# Altium schematic symbol library DIODOS.SchLib: 41 symbols (part 1 of 3)
Pins are listed as number, name and electrical type; pins without a type are passive.

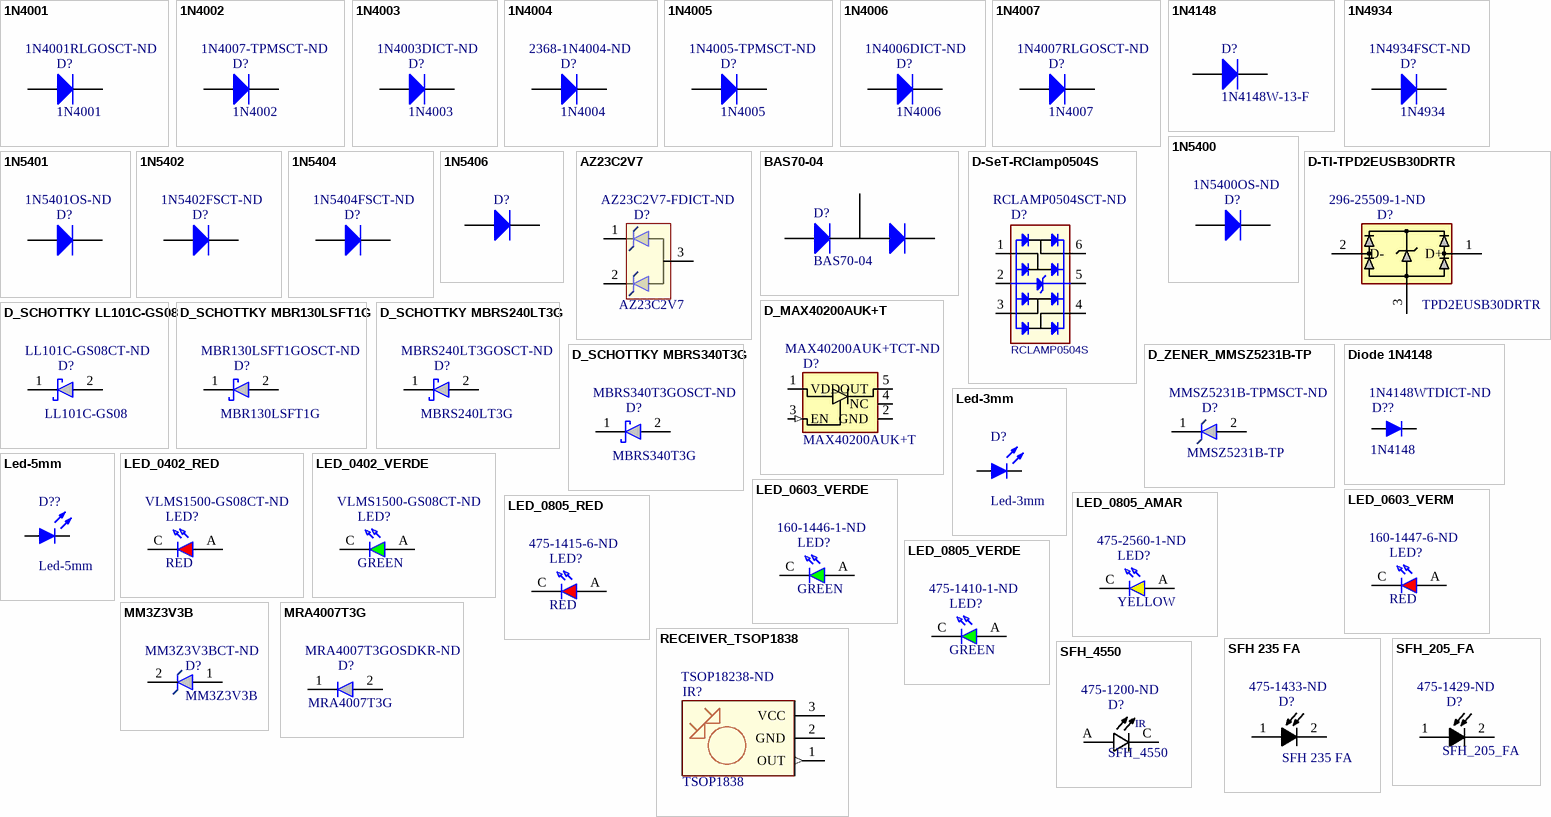
[diagram p0: symbols 1N4001 to SFH_4550]

## 1N4001
designator D?  Supplier Part Number 1: 1N4001RLGOSCT-ND
Diode Switching 50V 1A 2-Pin DO-41 T/R; Manufacturer: ON Semiconductor; Manufacturer Part Number: 1N4001RLG; Fabricante: Fairchild; Max Surge Current: 30A; Forward Voltage: 1.1V; Peak Reverse Current: 10uA; Element Configuration: Single; Polarity: Standard; MPN: 1N4001; Footprint: DO-41; Value: 1N4001; Code_JEDEC: DO-204-AL; ComponentLink1Description: LOJA; ComponentLink1URL: https://www.digikey.com/product-detail/en/on-semiconductor/1N4001RLG/1N4001RLGOSCT-ND/917621; ComponentLink2Description: DATASHEET; ComponentLink2URL: https://www.onsemi.com/pub/Collateral/1N4001-D.PDF; Supplier 1: Digi-Key; RoHS: Yes; Category: Rectifier Diodes; Stock 1: 12104; Pricing 1: 1=0,21000, 10=0,19400, 25=0,18520, 100=0,08140, 250=0,07816, 500=0,06394, 1000=0,04440, 2500=0,03878 (USD); Case/Package: Axial; Number of Pins: 2; Contact Plating: Tin,Matte; Min Operating Temperature: -65°C; Max Operating Temperature: 175°C; Forward Current: 1A; Package Quantity: 1; Packaging: Tape and Reel; Average Rectified Current: 1A; Max Repetitive Reverse Voltage (Vrrm): 50V; Peak Non-Repetitive Surge Current: 30A; Max Forward Surge Current (Ifsm): 30A; Voltage Rating (DC): 50V; Current Rating: 1A; Output Current: 1A; Max Reverse Voltage (DC): 50V; Reverse Voltage: 50V; Diameter: 2.7mm; Length: 5.2mm; Height: 5.2mm; Radiation Hardening: No; REACH SVHC: No SVHC; Lead Free: Lead Free; Halogen Free: Halogen Free; ComponentLink3URL: https://datasheet.ciiva.com/30479/0900766b81221291-30479413.pdf?src-supplier=RSComponents; ComponentLink3Description: https://datasheet.ciiva.com/30479/0900766b81221291-30479413.pdf?src-supplier=RSComponents; ComponentLink4URL: https://datasheet.ciiva.com/27050/804480-27050138.pdf?src-supplier=Jameco; ComponentLink4Description: https://datasheet.ciiva.com/27050/804480-27050138.pdf?src-supplier=Jameco; ComponentLink5URL: https://datasheet.ciiva.com/3304/1n4001-d-3304182.pdf?src-supplier=Avnet; ComponentLink5Description: https://datasheet.ciiva.com/3304/1n4001-d-3304182.pdf?src-supplier=Avnet; ComponentLink6URL: https://datasheet.ciiva.com/8299/1n4001-d-8299703.pdf?src-supplier=Avnet; ComponentLink6Description: https://datasheet.ciiva.com/8299/1n4001-d-8299703.pdf?src-supplier=Avnet; ComponentLink7URL: https://datasheet.ciiva.com/915/1n4001-d-915353.pdf?src-supplier=Digi-Key; ComponentLink7Description: https://datasheet.ciiva.com/915/1n4001-d-915353.pdf?src-supplier=Digi-Key; ComponentLink8URL: https://datasheet.ciiva.com/915/1n4001-d-915354.pdf?src-supplier=Digi-Key; ComponentLink8Description: https://datasheet.ciiva.com/915/1n4001-d-915354.pdf?src-supplier=Digi-Key; ComponentLink9URL: https://datasheet.ciiva.com/7962/1n4001-d-7962911.pdf?src-supplier=Element14; ComponentLink9Description: https://datasheet.ciiva.com/7962/1n4001-d-7962911.pdf?src-supplier=Element14; ComponentLink10URL: https://datasheet.ciiva.com/25930/1n4001-d-25930431.pdf?src-supplier=Avnet+Europe; ComponentLink10Description: https://datasheet.ciiva.com/25930/1n4001-d-25930431.pdf?src-supplier=Avnet+Europe
footprint DO-41 (Diode, Axial; Body 5.2 x 2.7 mm (LxDia. max), Lead Dia. 0.86 mm (max))
simulation model 1N4001 (DIODE)
signal-integrity model 1N4001
pins: 1 A, 2 K

## 1N4002
designator D?  Supplier Part Number 1: 1N4007-TPMSCT-ND
DIODE GEN PURP 1KV 1A DO41; Manufacturer: MCC; Manufacturer Part Number: 1N4007-TP; Fabricante: On Semi; Polarity: Standard; Capacitance: 15pF; Reverse Recovery Time: 2us; Peak Reverse Current: 5uA; Max Surge Current: 30A; Forward Voltage: 1V; Element Configuration: Single; Recovery Time: 2000ns; MPN: 1N4002; Value: 1N4002; Footprint: DO-41; Code_JEDEC: DO-204-AL; ComponentLink1Description: datasheet; ComponentLink1URL: https://www.onsemi.com/pub/Collateral/1N4001-D.PDF; ComponentLink2Description: loja; ComponentLink2URL: https://www.digikey.com/products/en/discrete-semiconductor-products/diodes-rectifiers-single/280?k=1n400; Supplier 1: Digi-Key; RoHS: Yes; Category: Rectifier Diodes; Stock 1: 460010; Pricing 1: 1=0,12000, 10=0,11200, 25=0,10640, 100=0,04680, 250=0,04488, 500=0,03672, 1000=0,02550, 2500=0,02227 (USD); Mount: Through Hole; Number of Pins: 2; Min Operating Temperature: -55°C; Max Operating Temperature: 150°C; Voltage Rating (DC): 1kV; Current Rating: 1A; Output Current: 1A; Max Reverse Voltage (DC): 1kV; Package Quantity: 1; Packaging: Tape and Reel; Average Rectified Current: 1A; Reverse Voltage: 1kV; Max Repetitive Reverse Voltage (Vrrm): 1kV; Forward Current: 1A; Peak Non-Repetitive Surge Current: 30A; Max Forward Surge Current (Ifsm): 30A; Diameter: 2.7mm; Length: 5.2mm; Radiation Hardening: No; Lead Free: Lead Free; ComponentLink3URL: https://datasheet.ciiva.com/15200/getdatasheetpartid-244538-15200364.pdf?src-supplier=Verical; ComponentLink3Description: https://datasheet.ciiva.com/15200/getdatasheetpartid-244538-15200364.pdf?src-supplier=Verical; ComponentLink4URL: https://datasheet.ciiva.com/18403/70055517-18403644.pdf?src-supplier=Allied+Electronics; ComponentLink4Description: https://datasheet.ciiva.com/18403/70055517-18403644.pdf?src-supplier=Allied+Electronics; ComponentLink5URL: https://datasheet.ciiva.com/911/1n4001-1n4007do-41-911645.pdf?src-supplier=Digi-Key; ComponentLink5Description: https://datasheet.ciiva.com/911/1n4001-1n4007do-41-911645.pdf?src-supplier=Digi-Key; ComponentLink6URL: https://datasheet.ciiva.com/16769/1n4001-1n4007do-41-16769869.pdf?src-supplier=Future+Electronics; ComponentLink6Description: https://datasheet.ciiva.com/16769/1n4001-1n4007do-41-16769869.pdf?src-supplier=Future+Electronics; ComponentLink7URL: https://datasheet.ciiva.com/911/1n4001-1n4007do-41-911646.pdf?src-supplier=Digi-Key; ComponentLink7Description: https://datasheet.ciiva.com/911/1n4001-1n4007do-41-911646.pdf?src-supplier=Digi-Key
footprint DO-41 (Diode, Axial; Body 5.2 x 2.7 mm (LxDia. max), Lead Dia. 0.86 mm (max))
simulation model 1N4002 (DIODE)
signal-integrity model 1N4002
pins: 1 A, 2 K

## 1N4003
designator D?  Supplier Part Number 1: 1N4003DICT-ND
Diode Standard  1A Through Hole DO-41; Manufacturer: Diodes; Manufacturer Part Number: 1N4003-T; Fabricante: ON Semi; Peak Reverse Current: 5uA; Max Repetitive Reverse Voltage (Vrrm): 200V; Peak Non-Repetitive Surge Current: 30A; Capacitance: 15pF; Recovery Time: 2us; Forward Voltage: 1V; Value: 1N4003; Footprint: DO-41; MPN: 1N4003; Code_JEDEC: DO-204-AL; ComponentLink1Description: DATASHEET; ComponentLink1URL: https://www.onsemi.com/pub/Collateral/1N4001-D.PDF; Supplier 1: Digi-Key; RoHS: Yes; Category: Rectifier Diodes; Stock 1: 150993; Pricing 1: 1=0,19000, 10=0,17200, 25=0,16400, 100=0,07220, 250=0,06932, 500=0,05672, 1000=0,03939, 2500=0,03440 (USD); Number of Pins: 2; Weight: 0.010582oz; Min Operating Temperature: -65°C; Max Operating Temperature: 150°C; Packaging: Tape and Reel; Max Surge Current: 30A; Package Quantity: 5000; Average Rectified Current: 1A; Max Reverse Voltage (DC): 200V; Polarity: Standard; Voltage Rating (DC): 200V; Current Rating: 1A; Output Current: 1A; Forward Current: 1A; Max Forward Surge Current (Ifsm): 30A; Reverse Voltage (DC): 200V; Diameter: 2.72mm; Length: 5.21mm; Height: 2.72mm; Width: 2.72mm; Radiation Hardening: No; Lead Free: Lead Free; ComponentLink2URL: https://datasheet.ciiva.com/4453/ds28002-83776-4453713.pdf?src-supplier=Mouser; ComponentLink2Description: https://datasheet.ciiva.com/4453/ds28002-83776-4453713.pdf?src-supplier=Mouser; ComponentLink3URL: https://datasheet.ciiva.com/16372/ds28002-16372872.pdf?src-supplier=Future+Electronics; ComponentLink3Description: https://datasheet.ciiva.com/16372/ds28002-16372872.pdf?src-supplier=Future+Electronics; ComponentLink4URL: https://datasheet.ciiva.com/15144/getdatasheetpartid-66680-15144396.pdf?src-supplier=Verical; ComponentLink4Description: https://datasheet.ciiva.com/15144/getdatasheetpartid-66680-15144396.pdf?src-supplier=Verical
footprint DO-41 (Diode, Axial; Body 5.2 x 2.7 mm (LxDia. max), Lead Dia. 0.86 mm (max))
simulation model 1N4003 (DIODE)
signal-integrity model 1N4003
pins: 1 A, 2 K

## 1N4004
designator D?  Supplier Part Number 1: 2368-1N4004-ND
RECTIFIER SILICON 400V 1A DO-41 CASE; Manufacturer: NTE Electronics; Fabricante: ON Semi; Element Configuration: Single; Peak Non-Repetitive Surge Current: 30A; Forward Voltage: 1.1V; Peak Reverse Current: 5uA; Polarity: Standard; Capacitance: 15pF; MPN: 1N4004; Footprint: DO-41; Value: 1N4004; Code_JEDEC: DO-204-AL; ComponentLink1Description: datasheet; ComponentLink1URL: https://www.onsemi.com/pub/Collateral/1N4001-D.PDF; Supplier 1: Digi-Key; Manufacturer Part Number: 1N4004; RoHS: Yes; Category: Rectifier Diodes; Pricing 1: 25=0,10000 (USD); Mount: Through Hole; Number of Pins: 2; Min Operating Temperature: -65°C; Max Operating Temperature: 125°C; Max Repetitive Reverse Voltage (Vrrm): 400V; Max Forward Surge Current (Ifsm): 30A; Forward Current: 1A; Packaging: Tape and Reel; Voltage Rating (DC): 400V; Current Rating: 1A; Output Current: 1A; Lead Free: Lead Free; REACH SVHC: Unknown; ComponentLink2URL: https://datasheet.ciiva.com/22659/1n4001-07-22659173.pdf?src-supplier=Element14; ComponentLink2Description: https://datasheet.ciiva.com/22659/1n4001-07-22659173.pdf?src-supplier=Element14; ComponentLink3URL: https://datasheet.ciiva.com/5837/1n4001-07-5837644.pdf?src-supplier=Farnell; ComponentLink3Description: https://datasheet.ciiva.com/5837/1n4001-07-5837644.pdf?src-supplier=Farnell
footprint DO-41 (Diode, Axial; Body 5.2 x 2.7 mm (LxDia. max), Lead Dia. 0.86 mm (max))
simulation model 1N4004 (DIODE)
signal-integrity model 1N4004
pins: 1 A, 2 K

## 1N4005
designator D?  Supplier Part Number 1: 1N4005-TPMSCT-ND
DIODE GEN PURP 600V 1A DO41; Manufacturer: MCC; Manufacturer Part Number: 1N4005-TP; Fabricante: On Semi; Max Surge Current: 30A; Forward Voltage: 1.1V; Recovery Time: 2000ns; Peak Reverse Current: 5uA; Element Configuration: Single; Reverse Recovery Time: 2us; Polarity: Standard; Capacitance: 15pF; Value: 1N4005; MPN: 1N4005; Footprint: DO-41; Code_JEDEC: DO-204-AL; ComponentLink1Description: datasheet; ComponentLink1URL: https://www.onsemi.com/pub/Collateral/1N4001-D.PDF; Supplier 1: Digi-Key; RoHS: Yes; Category: Rectifier Diodes; Stock 1: 27857; Pricing 1: 1=0,12000, 10=0,11200, 25=0,10640, 100=0,04680, 250=0,04488, 500=0,03672, 1000=0,02550, 2500=0,02227 (USD); Mount: Through Hole; Number of Pins: 2; Min Operating Temperature: -55°C; Max Operating Temperature: 150°C; Package Quantity: 1; Packaging: Tape and Reel; Max Reverse Voltage (DC): 600V; Forward Current: 1A; Reverse Voltage: 600V; Average Rectified Current: 1A; Max Repetitive Reverse Voltage (Vrrm): 600V; Peak Non-Repetitive Surge Current: 30A; Max Forward Surge Current (Ifsm): 30A; Voltage Rating (DC): 600V; Current Rating: 1A; Output Current: 1A; Diameter: 2.7mm; Length: 5.2mm; Radiation Hardening: No; REACH SVHC: Unknown; Lead Free: Lead Free; ComponentLink2URL: https://datasheet.ciiva.com/911/1n4001-1n4007do-41-911651.pdf?src-supplier=Digi-Key; ComponentLink2Description: https://datasheet.ciiva.com/911/1n4001-1n4007do-41-911651.pdf?src-supplier=Digi-Key; ComponentLink3URL: https://datasheet.ciiva.com/911/1n4001-1n4007do-41-911652.pdf?src-supplier=Digi-Key; ComponentLink3Description: https://datasheet.ciiva.com/911/1n4001-1n4007do-41-911652.pdf?src-supplier=Digi-Key; ComponentLink4URL: https://datasheet.ciiva.com/7624/1684824-7624696.pdf?src-supplier=Element14; ComponentLink4Description: https://datasheet.ciiva.com/7624/1684824-7624696.pdf?src-supplier=Element14; ComponentLink5URL: https://datasheet.ciiva.com/15200/getdatasheetpartid-57107-15200363.pdf?src-supplier=Verical; ComponentLink5Description: https://datasheet.ciiva.com/15200/getdatasheetpartid-57107-15200363.pdf?src-supplier=Verical
footprint DO-41 (Diode, Axial; Body 5.2 x 2.7 mm (LxDia. max), Lead Dia. 0.86 mm (max))
simulation model 1N4005 (DIODE)
signal-integrity model 1N4005
pins: 1 A, 2 K

## 1N4006
designator D?  Supplier Part Number 1: 1N4006DICT-ND
1N4006 Series 800 V 1 A Through Hole High Current Standard Rectifier - DO-41; Manufacturer: Diodes; Manufacturer Part Number: 1N4006-T; Fabricante: ON Semi; Peak Reverse Current: 5uA; Max Repetitive Reverse Voltage (Vrrm): 800V; Peak Non-Repetitive Surge Current: 30A; Average Rectified Current: 1A; Forward Voltage: 1V; Recovery Time: 2us; Capacitance: 8pF; Value: 1N4006; Footprint: DO-41; Code_JEDEC: DO-204-AL; ComponentLink1Description: datasheet; ComponentLink1URL: https://www.onsemi.com/pub/Collateral/1N4001-D.PDF; MPN: 1N4006; Supplier 1: Digi-Key; RoHS: Yes; Category: Rectifier Diodes; Stock 1: 37084; Pricing 1: 1=0,19000, 10=0,17200, 25=0,16400, 100=0,07220, 250=0,06932, 500=0,05672, 1000=0,03939, 2500=0,03440 (USD); Number of Pins: 2; Weight: 0.010582oz; Contact Plating: Tin,Bright; Min Operating Temperature: -65°C; Max Operating Temperature: 150°C; Packaging: Tape and Reel; Max Surge Current: 30A; Package Quantity: 5000; Max Reverse Voltage (DC): 800V; Forward Current: 1A; Max Forward Surge Current (Ifsm): 30A; Polarity: Standard; Voltage Rating (DC): 800V; Current Rating: 1A; Output Current: 1A; Reverse Voltage (DC): 800V; Length: 4.7mm; Height: 2.71mm; Width: 2.71mm; Radiation Hardening: No; Lead Free: Lead Free; ComponentLink2URL: https://datasheet.ciiva.com/911/ds28002-911625.pdf?src-supplier=Digi-Key; ComponentLink2Description: https://datasheet.ciiva.com/911/ds28002-911625.pdf?src-supplier=Digi-Key; ComponentLink3URL: https://datasheet.ciiva.com/911/ds28002-911624.pdf?src-supplier=Digi-Key; ComponentLink3Description: https://datasheet.ciiva.com/911/ds28002-911624.pdf?src-supplier=Digi-Key
footprint DO-41 (Diode, Axial; Body 5.2 x 2.7 mm (LxDia. max), Lead Dia. 0.86 mm (max))
simulation model 1N4006 (DIODE)
signal-integrity model 1N4006
pins: 1 A, 2 K

## 1N4007
designator D?  Supplier Part Number 1: 1N4007RLGOSCT-ND
ON SEMICONDUCTOR   1N4007RLG   STANDARD DIODE, 1A, 1KV, 59-10; Fabricante: On Semi; Max Surge Current: 30A; Peak Reverse Current: 10uA; Forward Voltage: 1.1V; Element Configuration: Single; MPN: 1N4007; Value: 1N4007; Footprint: DO-41; Code_JEDEC: DO-204-AL; ComponentLink1Description: datasheet; ComponentLink1URL: https://www.onsemi.com/pub/Collateral/1N4001-D.PDF; ComponentLink2Description: loja; ComponentLink2URL: https://www.digikey.com/product-detail/en/on-semiconductor/1N4007RLG/1N4007RLGOSCT-ND/917625; Supplier 1: Digi-Key; Manufacturer: ON Semiconductor; Manufacturer Part Number: 1N4007RLG; RoHS: Yes; Category: Rectifier Diodes; Stock 1: 158599; Pricing 1: 1=0,18000, 10=0,16700, 25=0,15880, 100=0,06990, 250=0,06704, 500=0,05486, 1000=0,03810, 2500=0,03328 (USD); Number of Pins: 2; Weight: 0.01lb; Contact Plating: Tin,Matte; Min Operating Temperature: -65°C; Max Operating Temperature: 175°C; Package Quantity: 1; Forward Current: 1A; Packaging: Tape and Reel; Average Rectified Current: 1A; Max Repetitive Reverse Voltage (Vrrm): 1kV; Max Forward Surge Current (Ifsm): 30A; Peak Non-Repetitive Surge Current: 30A; Polarity: Standard; Voltage Rating (DC): 1kV; Current Rating: 1A; Output Current: 1A; Max Reverse Voltage (DC): 1kV; Reverse Voltage: 1kV; Length: 5.2mm; Height: 2.7mm; Width: 2.7mm; Radiation Hardening: No; REACH SVHC: No SVHC; Lead Free: Lead Free; Halogen Free: Halogen Free; ComponentLink3URL: https://datasheet.ciiva.com/915/1n4001-d-915344.pdf?src-supplier=Digi-Key; ComponentLink3Description: https://datasheet.ciiva.com/915/1n4001-d-915344.pdf?src-supplier=Digi-Key; ComponentLink4URL: https://datasheet.ciiva.com/30479/0900766b811a6370-30479218.pdf?src-supplier=RSComponents; ComponentLink4Description: https://datasheet.ciiva.com/30479/0900766b811a6370-30479218.pdf?src-supplier=RSComponents; ComponentLink5URL: https://datasheet.ciiva.com/30479/0900766b811a6370-30479209.pdf?src-supplier=RSComponents; ComponentLink5Description: https://datasheet.ciiva.com/30479/0900766b811a6370-30479209.pdf?src-supplier=RSComponents; ComponentLink6URL: https://datasheet.ciiva.com/30479/0900766b811a6370-30479534.pdf?src-supplier=RSComponents; ComponentLink6Description: https://datasheet.ciiva.com/30479/0900766b811a6370-30479534.pdf?src-supplier=RSComponents; ComponentLink7URL: https://datasheet.ciiva.com/915/1n4001-d-915345.pdf?src-supplier=Digi-Key; ComponentLink7Description: https://datasheet.ciiva.com/915/1n4001-d-915345.pdf?src-supplier=Digi-Key; ComponentLink8URL: https://datasheet.ciiva.com/3304/1n4001-d-3304216.pdf?src-supplier=Avnet; ComponentLink8Description: https://datasheet.ciiva.com/3304/1n4001-d-3304216.pdf?src-supplier=Avnet; ComponentLink9URL: https://datasheet.ciiva.com/22659/1689669-22659000.pdf?src-supplier=Element14; ComponentLink9Description: https://datasheet.ciiva.com/22659/1689669-22659000.pdf?src-supplier=Element14; ComponentLink10URL: https://datasheet.ciiva.com/22659/1689669-22659001.pdf?src-supplier=Element14; ComponentLink10Description: https://datasheet.ciiva.com/22659/1689669-22659001.pdf?src-supplier=Element14; ComponentLink11URL: https://datasheet.ciiva.com/16472/1n4001-d-16472587.pdf?src-supplier=Avnet+Asia; ComponentLink11Description: https://datasheet.ciiva.com/16472/1n4001-d-16472587.pdf?src-supplier=Avnet+Asia; ComponentLink12URL: https://datasheet.ciiva.com/15144/getdatasheetpartid-66688-15144397.pdf?src-supplier=Verical; ComponentLink12Description: https://datasheet.ciiva.com/15144/getdatasheetpartid-66688-15144397.pdf?src-supplier=Verical; ComponentLink13URL: https://datasheet.ciiva.com/25950/1n4001-d-25950062.pdf?src-supplier=Avnet+Europe; ComponentLink13Description: https://datasheet.ciiva.com/25950/1n4001-d-25950062.pdf?src-supplier=Avnet+Europe
footprint DO-41 (Diode, Axial; Body 5.2 x 2.7 mm (LxDia. max), Lead Dia. 0.86 mm (max))
simulation model 1N4007 (DIODE)
signal-integrity model 1N4007
pins: 1 A, 2 K

## 1N4148
designator D?, comment 1N4148W-13-F
Diode Switching 100V 0.15A Automotive 2-Pin SOD-123 T/R; MPN: 1N4001; Manufacturer: Diodes; Fabricante: Fairchild; Value: 1N4001; Forward Current: 150mA; Reverse Recovery Time: 4ns; Peak Non-Repetitive Surge Current: 2A; Element Configuration: Single; Forward Voltage: 1.25V; Peak Reverse Current: 1uA; Power Dissipation: 400mW; Footprint: DO-41; Code_JEDEC: DO-204-AL; Supplier 1: Digi-Key; Supplier Part Number 1: 1N4148W-13FDICT-ND; Manufacturer Part Number: 1N4148W-13-F; Stock 1: 40973; Pricing 1: 1=0,17000, 10=0,15900, 25=0,15160, 100=0,06670, 250=0,06400, 500=0,05236, 1000=0,03636, 2500=0,03176, 5000=0,02848 (USD); RoHS: Yes; Mount: Surface Mount; Case/Package: SOD-123-2; Number of Pins: 2; Weight: 0.000353oz; Min Operating Temperature: -65°C; Max Operating Temperature: 150°C; Max Repetitive Reverse Voltage (Vrrm): 100V; Packaging: Tape and Reel; Max Surge Current: 2A; Recovery Time: 4ns; Package Quantity: 10000; Average Rectified Current: 150mA; Power Rating: 400mW; Max Reverse Voltage (DC): 100V; Length: 2.85mm; Height: 1.25mm; Width: 1.7mm; Radiation Hardening: No; Lead Free: Lead Free; ComponentLink1URL: https://datasheet.ciiva.com/3304/ds30086-3304224.pdf?src-supplier=Avnet; ComponentLink1Description: https://datasheet.ciiva.com/3304/ds30086-3304224.pdf?src-supplier=Avnet; ComponentLink2URL: https://datasheet.ciiva.com/27052/1537977-27052339.pdf?src-supplier=Jameco; ComponentLink2Description: https://datasheet.ciiva.com/27052/1537977-27052339.pdf?src-supplier=Jameco; ComponentLink3URL: https://datasheet.ciiva.com/6383/ds30086-6383133.pdf?src-supplier=Digi-Key; ComponentLink3Description: https://datasheet.ciiva.com/6383/ds30086-6383133.pdf?src-supplier=Digi-Key; ComponentLink4URL: https://datasheet.ciiva.com/16201/ds30086-16201085.pdf?src-supplier=Future+Electronics; ComponentLink4Description: https://datasheet.ciiva.com/16201/ds30086-16201085.pdf?src-supplier=Future+Electronics; ComponentLink5URL: https://datasheet.ciiva.com/6383/ds30086-6383134.pdf?src-supplier=Digi-Key; ComponentLink5Description: https://datasheet.ciiva.com/6383/ds30086-6383134.pdf?src-supplier=Digi-Key; ComponentLink6URL: https://datasheet.ciiva.com/6383/ds30086-6383135.pdf?src-supplier=Digi-Key; ComponentLink6Description: https://datasheet.ciiva.com/6383/ds30086-6383135.pdf?src-supplier=Digi-Key
simulation model 1N4001 (DIODE)
signal-integrity model 1N4001
footprint SOD123 (SOD123, Surface Mount)
pins: 1 A, 2 K

## 1N4934
designator D?  Supplier Part Number 1: 1N4934FSCT-ND
DIODE GEN PURP 100V 1A DO41; Manufacturer: ON Semiconductor / Fairchild; Fabricante: On Semi; Element Configuration: Single; Peak Reverse Current: 5uA; Reverse Recovery Time: 150ns; Peak Non-Repetitive Surge Current: 30A; Recovery Time: 300ns; Forward Voltage: 1.2V; Polarity: Standard; Capacitance: 12pF; Power Dissipation: 2.5W; MPN: 1N4934; Footprint: DO-41; Value: 1N4934; Code_JEDEC: DO-204-AL; ComponentLink1Description: loja; ComponentLink1URL: https://www.digikey.com/product-detail/en/on-semiconductor/1N4934/1N4934FSCT-ND/3504280; ComponentLink2Description: Datasheet; ComponentLink2URL: http://www.fairchildsemi.com/ds/1N%2F1N4934.pdf; Supplier 1: Digi-Key; Manufacturer Part Number: 1N4934; RoHS: Yes; Category: Rectifier Diodes; Pricing 1: 1=0,21000, 10=0,18700, 100=0,10210, 500=0,06284, 1000=0,04284 (USD); Mount: Through Hole; Number of Pins: 2; Weight: 0.245g; Contact Plating: Tin,Matte; Min Operating Temperature: -65°C; Max Operating Temperature: 150°C; Packaging: Tape and Reel; Max Repetitive Reverse Voltage (Vrrm): 100V; Max Surge Current: 30A; Package Quantity: 1000; Average Rectified Current: 1A; Max Reverse Voltage (DC): 100V; Forward Current: 1A; Voltage Rating (DC): 100V; Current Rating: 1A; Output Current: 1A; Reverse Voltage: 100V; Max Forward Surge Current (Ifsm): 30A; Diameter: 2.72mm; Length: 5.2mm; Height: 0.25inch; Width: 0.25inch; Radiation Hardening: No; Lead Free: Lead Free; REACH SVHC: No SVHC; ComponentLink3URL: https://datasheet.ciiva.com/910/1n4937-910450.pdf?src-supplier=Avnet; ComponentLink3Description: https://datasheet.ciiva.com/910/1n4937-910450.pdf?src-supplier=Avnet; ComponentLink4URL: https://datasheet.ciiva.com/4452/1n4934-193180-4452365.pdf?src-supplier=Mouser; ComponentLink4Description: https://datasheet.ciiva.com/4452/1n4934-193180-4452365.pdf?src-supplier=Mouser; ComponentLink5URL: https://datasheet.ciiva.com/1176/47887-1176855.pdf?src-supplier=Element14; ComponentLink5Description: https://datasheet.ciiva.com/1176/47887-1176855.pdf?src-supplier=Element14; ComponentLink6URL: https://datasheet.ciiva.com/6367/1n4937-6367753.pdf?src-supplier=Digi-Key; ComponentLink6Description: https://datasheet.ciiva.com/6367/1n4937-6367753.pdf?src-supplier=Digi-Key; ComponentLink7URL: https://datasheet.ciiva.com/927/1n4933-d-927547.pdf?src-supplier=Digi-Key; ComponentLink7Description: https://datasheet.ciiva.com/927/1n4933-d-927547.pdf?src-supplier=Digi-Key; ComponentLink8URL: https://datasheet.ciiva.com/15208/getdatasheetpartid-185087-15208379.pdf?src-supplier=Verical; ComponentLink8Description: https://datasheet.ciiva.com/15208/getdatasheetpartid-185087-15208379.pdf?src-supplier=Verical
footprint DO-41 (Diode, Axial; Body 5.2 x 2.7 mm (LxDia. max), Lead Dia. 0.86 mm (max))
simulation model 1N4934 (DIODE)
signal-integrity model 1N4934
pins: 1 A, 2 K

## 1N5400
designator D?  Supplier Part Number 1: 1N5400OS-ND
DIODE GEN PURP 50V 3A DO201AD; Manufacturer: ON Semiconductor / Fairchild; Manufacturer Part Number: 1N5400; Max Surge Current: 200A; Peak Reverse Current: 10uA; Element Configuration: Single; Polarity: Standard; Forward Voltage: 1.2V; Power Dissipation: 6.25W; Capacitance: 30pF; Published: 8-Jun-2000; LatestRevisionDate: 17-Jul-2002; LatestRevisionNote: Re-released for DXP Platform.; DatasheetDocument: 1998; PackageDocument: Aug-1999; PackageReference: DO-201AD; Publisher: Altium Limited; ComponentLink1Description: Manufacturer Link; ComponentLink1URL: http://www.fairchildsemi.com/; ComponentLink2Description: Datasheet; ComponentLink2URL: http://www.fairchildsemi.com/ds/1N%2F1N5400.pdf; Supplier 1: Digi-Key; RoHS: Yes; Category: Integrated Circuits (ICs); Mount: Through Hole; Number of Pins: 2; Weight: 0.01lb; Min Operating Temperature: -65°C; Max Operating Temperature: 150°C; Packaging: Tape and Reel; Package Quantity: 1; Average Rectified Current: 3A; Max Repetitive Reverse Voltage (Vrrm): 50V; Max Forward Surge Current (Ifsm): 200A; Voltage Rating (DC): 50V; Current Rating: 3A; Output Current: 3A; Max Reverse Voltage (DC): 50V; Forward Current: 3A; Reverse Voltage: 50V; Peak Non-Repetitive Surge Current: 200A; Length: 0.25inch; Height: 0.25inch; Width: 0.25inch; Lead Free: Lead Free; REACH SVHC: No SVHC; ComponentLink3URL: https://datasheet.ciiva.com/6375/1n5400-6375345.pdf?src-supplier=Digi-Key; ComponentLink3Description: https://datasheet.ciiva.com/6375/1n5400-6375345.pdf?src-supplier=Digi-Key; ComponentLink4URL: https://datasheet.ciiva.com/13088/1n5400-188329-13088863.pdf?src-supplier=Mouser; ComponentLink4Description: https://datasheet.ciiva.com/13088/1n5400-188329-13088863.pdf?src-supplier=Mouser; ComponentLink5URL: https://datasheet.ciiva.com/8018/89175-8018991.pdf?src-supplier=Element14; ComponentLink5Description: https://datasheet.ciiva.com/8018/89175-8018991.pdf?src-supplier=Element14
footprint DO-201AD (Diode, Axial; Body 9.5 x 5.6 mm (LxDia. max), Lead Dia. 1.32 mm (max))
simulation model 1N5400 (DIODE)
signal-integrity model 1N5400
pins: 1 A, 2 K

## 1N5401
designator D?  Supplier Part Number 1: 1N5401OS-ND
Fairchild 1N5401, Diode, 100V 3A, 2-Pin DO-201AD; Manufacturer: ON Semiconductor / Fairchild; Element Configuration: Single; Peak Reverse Current: 5uA; Forward Voltage: 1.2V; Peak Non-Repetitive Surge Current: 200A; Polarity: Standard; Capacitance: 30pF; Power Dissipation: 6.25W; Published: 8-Jun-2000; LatestRevisionDate: 17-Jul-2002; LatestRevisionNote: Re-released for DXP Platform.; DatasheetDocument: 1998; PackageDocument: Aug-1999; PackageReference: DO-201AD; Publisher: Altium Limited; ComponentLink1Description: Manufacturer Link; ComponentLink1URL: http://www.fairchildsemi.com/; ComponentLink2Description: Datasheet; ComponentLink2URL: http://www.fairchildsemi.com/ds/1N%2F1N5400.pdf; Supplier 1: Digi-Key; Manufacturer Part Number: 1N5401; RoHS: Yes; Category: Rectifier Diodes; Mount: Through Hole; Case/Package: Axial; Number of Pins: 2; Weight: 0.01lb; Contact Plating: Tin,Matte; Min Operating Temperature: -55°C; Max Operating Temperature: 150°C; Packaging: Tape and Reel; Max Repetitive Reverse Voltage (Vrrm): 100V; Forward Current: 3A; Package Quantity: 500; Voltage Rating (DC): 100V; Current Rating: 3A; Output Current: 3A; Max Forward Surge Current (Ifsm): 200A; Max Surge Current: 200A; Average Rectified Current: 3A; Max Reverse Voltage (DC): 100V; Reverse Voltage: 100V; Diameter: 5.6mm; Length: 9.5mm; Height: 0.25inch; Width: 0.25inch; Radiation Hardening: No; Lead Free: Lead Free; REACH SVHC: No SVHC; ComponentLink3URL: https://datasheet.ciiva.com/1199/1n5402-1199120.pdf?src-supplier=Avnet; ComponentLink3Description: https://datasheet.ciiva.com/1199/1n5402-1199120.pdf?src-supplier=Avnet; ComponentLink4URL: https://datasheet.ciiva.com/4453/1n5401-192450-4453444.pdf?src-supplier=Mouser; ComponentLink4Description: https://datasheet.ciiva.com/4453/1n5401-192450-4453444.pdf?src-supplier=Mouser; ComponentLink5URL: https://datasheet.ciiva.com/16781/1n5401-16781111.pdf?src-supplier=Future+Electronics; ComponentLink5Description: https://datasheet.ciiva.com/16781/1n5401-16781111.pdf?src-supplier=Future+Electronics; ComponentLink6URL: https://datasheet.ciiva.com/34302/1200602-34302073.pdf?src-supplier=Jameco; ComponentLink6Description: https://datasheet.ciiva.com/34302/1200602-34302073.pdf?src-supplier=Jameco; ComponentLink7URL: https://datasheet.ciiva.com/927/1n5400-5408seriesrev5-927552.pdf?src-supplier=Digi-Key; ComponentLink7Description: https://datasheet.ciiva.com/927/1n5400-5408seriesrev5-927552.pdf?src-supplier=Digi-Key; ComponentLink8URL: https://datasheet.ciiva.com/26231/1n5408-26231989.pdf?src-supplier=Avnet+Europe; ComponentLink8Description: https://datasheet.ciiva.com/26231/1n5408-26231989.pdf?src-supplier=Avnet+Europe; ComponentLink9URL: https://datasheet.ciiva.com/910/1n5401-910662.pdf?src-supplier=Digi-Key; ComponentLink9Description: https://datasheet.ciiva.com/910/1n5401-910662.pdf?src-supplier=Digi-Key; ComponentLink10URL: https://datasheet.ciiva.com/8303/1n5408-8303622.pdf?src-supplier=Avnet; ComponentLink10Description: https://datasheet.ciiva.com/8303/1n5408-8303622.pdf?src-supplier=Avnet; ComponentLink11URL: https://datasheet.ciiva.com/910/1n5401-910663.pdf?src-supplier=Digi-Key; ComponentLink11Description: https://datasheet.ciiva.com/910/1n5401-910663.pdf?src-supplier=Digi-Key; ComponentLink12URL: https://datasheet.ciiva.com/1176/308423-1176952.pdf?src-supplier=Element14; ComponentLink12Description: https://datasheet.ciiva.com/1176/308423-1176952.pdf?src-supplier=Element14
footprint DO-201AD (Diode, Axial; Body 9.5 x 5.6 mm (LxDia. max), Lead Dia. 1.32 mm (max))
simulation model 1N5401 (DIODE)
signal-integrity model 1N5401
pins: 1 A, 2 K

## 1N5402
designator D?  Supplier Part Number 1: 1N5402FSCT-ND
DIODE GEN PURP 200V 3A DO201AD; Manufacturer: ON Semiconductor / Fairchild; Manufacturer Part Number: 1N5402; Element Configuration: Single; Forward Voltage: 1.2V; Peak Non-Repetitive Surge Current: 200A; Peak Reverse Current: 5uA; Polarity: Standard; Capacitance: 30pF; Number of Elements: 1; Max Power Dissipation: 6.25W; Published: 8-Jun-2000; LatestRevisionDate: 17-Jul-2002; LatestRevisionNote: Re-released for DXP Platform.; DatasheetDocument: 1998; PackageDocument: Aug-1999; PackageReference: DO-201AD; Publisher: Altium Limited; ComponentLink1Description: Manufacturer Link; ComponentLink1URL: http://www.fairchildsemi.com/; ComponentLink2Description: Datasheet; ComponentLink2URL: http://www.fairchildsemi.com/ds/1N%2F1N5400.pdf; Supplier 1: Digi-Key; RoHS: Yes; Category: Integrated Circuits (ICs); Pricing 1: 1=0,43000, 10=0,32400, 100=0,20180, 500=0,13806 (USD); Mount: Through Hole; Number of Pins: 2; Weight: 0.36g; Contact Plating: Tin,Matte; Number of Terminals: 2; Min Operating Temperature: -55°C; Max Operating Temperature: 150°C; Packaging: Tape and Reel; Max Repetitive Reverse Voltage (Vrrm): 200V; Forward Current: 3A; Package Quantity: 1250; Average Rectified Current: 3A; Max Reverse Voltage (DC): 200V; Max Surge Current: 200A; Output Current: 3A; Voltage Rating (DC): 200V; Current Rating: 3A; Max Forward Surge Current (Ifsm): 200A; Reverse Voltage: 200V; Power Dissipation: 6.25W; Diameter: 5.6mm; Length: 9.5mm; Height: 0.25inch; Width: 0.25inch; Radiation Hardening: No; Lead Free: Lead Free; REACH SVHC: No SVHC; ComponentLink3URL: https://datasheet.ciiva.com/15144/getdatasheetpartid-60687-15144311.pdf?src-supplier=Verical; ComponentLink3Description: https://datasheet.ciiva.com/15144/getdatasheetpartid-60687-15144311.pdf?src-supplier=Verical; ComponentLink4URL: https://datasheet.ciiva.com/4453/1n5402-188335-4453138.pdf?src-supplier=Mouser; ComponentLink4Description: https://datasheet.ciiva.com/4453/1n5402-188335-4453138.pdf?src-supplier=Mouser; ComponentLink5URL: https://datasheet.ciiva.com/19477/1200611-19477597.pdf?src-supplier=Jameco; ComponentLink5Description: https://datasheet.ciiva.com/19477/1200611-19477597.pdf?src-supplier=Jameco; ComponentLink6URL: https://datasheet.ciiva.com/910/1n5401-910646.pdf?src-supplier=Digi-Key; ComponentLink6Description: https://datasheet.ciiva.com/910/1n5401-910646.pdf?src-supplier=Digi-Key; ComponentLink7URL: https://datasheet.ciiva.com/910/1n5401-910647.pdf?src-supplier=Digi-Key; ComponentLink7Description: https://datasheet.ciiva.com/910/1n5401-910647.pdf?src-supplier=Digi-Key; ComponentLink8URL: https://datasheet.ciiva.com/8303/1n5408-8303626.pdf?src-supplier=Avnet; ComponentLink8Description: https://datasheet.ciiva.com/8303/1n5408-8303626.pdf?src-supplier=Avnet; ComponentLink9URL: https://datasheet.ciiva.com/927/1n5400-5408seriesrev5-927553.pdf?src-supplier=Digi-Key; ComponentLink9Description: https://datasheet.ciiva.com/927/1n5400-5408seriesrev5-927553.pdf?src-supplier=Digi-Key; ComponentLink10URL: https://datasheet.ciiva.com/1176/308423-1176956.pdf?src-supplier=Element14; ComponentLink10Description: https://datasheet.ciiva.com/1176/308423-1176956.pdf?src-supplier=Element14
footprint DO-201AD (Diode, Axial; Body 9.5 x 5.6 mm (LxDia. max), Lead Dia. 1.32 mm (max))
simulation model 1N5402 (DIODE)
signal-integrity model 1N5402
pins: 1 A, 2 K

## 1N5404
designator D?  Supplier Part Number 1: 1N5404FSCT-ND
DIODE GEN PURP 400V 3A DO201AD; Manufacturer: ON Semiconductor / Fairchild; Manufacturer Part Number: 1N5404; Element Configuration: Single; Forward Voltage: 1.2V; Peak Reverse Current: 5uA; Peak Non-Repetitive Surge Current: 200A; Polarity: Standard; Capacitance: 30pF; Power Dissipation: 6.25W; Published: 8-Jun-2000; LatestRevisionDate: 17-Jul-2002; LatestRevisionNote: Re-released for DXP Platform.; DatasheetDocument: 1998; PackageDocument: Aug-1999; PackageReference: DO-201AD; Publisher: Altium Limited; ComponentLink1Description: Manufacturer Link; ComponentLink1URL: http://www.fairchildsemi.com/; ComponentLink2Description: Datasheet; ComponentLink2URL: http://www.fairchildsemi.com/ds/1N%2F1N5400.pdf; Supplier 1: Digi-Key; RoHS: Yes; Category: Rectifier Diodes; Pricing 1: 1=0,43000, 10=0,32400, 100=0,20180, 500=0,13806 (USD); Mount: Through Hole; Number of Pins: 2; Weight: 0.36g; Contact Plating: Tin,Matte; Min Operating Temperature: -55°C; Max Operating Temperature: 150°C; Packaging: Tape and Reel; Max Repetitive Reverse Voltage (Vrrm): 400V; Forward Current: 3A; Package Quantity: 500; Max Surge Current: 200A; Output Current: 3A; Average Rectified Current: 3A; Max Reverse Voltage (DC): 400V; Reverse Voltage: 400V; Max Forward Surge Current (Ifsm): 200A; Voltage Rating (DC): 400V; Current Rating: 3A; Diameter: 5.6mm; Length: 9.5mm; Height: 0.25inch; Width: 0.25inch; Radiation Hardening: No; Lead Free: Lead Free; REACH SVHC: No SVHC; ComponentLink3URL: https://datasheet.ciiva.com/16745/1n5404-16745010.pdf?src-supplier=Future+Electronics; ComponentLink3Description: https://datasheet.ciiva.com/16745/1n5404-16745010.pdf?src-supplier=Future+Electronics; ComponentLink4URL: https://datasheet.ciiva.com/1176/308423-1176962.pdf?src-supplier=Element14; ComponentLink4Description: https://datasheet.ciiva.com/1176/308423-1176962.pdf?src-supplier=Element14; ComponentLink5URL: https://datasheet.ciiva.com/4453/1n5404-193709-4453194.pdf?src-supplier=Mouser; ComponentLink5Description: https://datasheet.ciiva.com/4453/1n5404-193709-4453194.pdf?src-supplier=Mouser; ComponentLink6URL: https://datasheet.ciiva.com/927/1n5400-5408seriesrev5-927554.pdf?src-supplier=Digi-Key; ComponentLink6Description: https://datasheet.ciiva.com/927/1n5400-5408seriesrev5-927554.pdf?src-supplier=Digi-Key; ComponentLink7URL: https://datasheet.ciiva.com/910/1n5401-910650.pdf?src-supplier=Digi-Key; ComponentLink7Description: https://datasheet.ciiva.com/910/1n5401-910650.pdf?src-supplier=Digi-Key; ComponentLink8URL: https://datasheet.ciiva.com/22749/89175-22749083.pdf?src-supplier=Element14; ComponentLink8Description: https://datasheet.ciiva.com/22749/89175-22749083.pdf?src-supplier=Element14; ComponentLink9URL: https://datasheet.ciiva.com/8300/1n5408-8300412.pdf?src-supplier=Avnet; ComponentLink9Description: https://datasheet.ciiva.com/8300/1n5408-8300412.pdf?src-supplier=Avnet; ComponentLink10URL: https://datasheet.ciiva.com/910/1n5401-910649.pdf?src-supplier=Digi-Key; ComponentLink10Description: https://datasheet.ciiva.com/910/1n5401-910649.pdf?src-supplier=Digi-Key; ComponentLink11URL: https://datasheet.ciiva.com/7965/89175-7965119.pdf?src-supplier=Element14; ComponentLink11Description: https://datasheet.ciiva.com/7965/89175-7965119.pdf?src-supplier=Element14
footprint DO-201AD (Diode, Axial; Body 9.5 x 5.6 mm (LxDia. max), Lead Dia. 1.32 mm (max))
simulation model 1N5404 (DIODE)
signal-integrity model 1N5404
pins: 1 A, 2 K

## 1N5406
designator D?
3.0 Ampere General Purpose Rectifier; Published: 8-Jun-2000; LatestRevisionDate: 17-Jul-2002; LatestRevisionNote: Re-released for DXP Platform.; DatasheetDocument: 1998; PackageDocument: Aug-1999; PackageReference: DO-201AD; Publisher: Altium Limited; ComponentLink1Description: Manufacturer Link; ComponentLink1URL: http://www.fairchildsemi.com/; ComponentLink2Description: Datasheet; ComponentLink2URL: http://www.fairchildsemi.com/ds/1N%2F1N5400.pdf
footprint DO-201AD (Diode, Axial; Body 9.5 x 5.6 mm (LxDia. max), Lead Dia. 1.32 mm (max))
simulation model 1N5406 (DIODE)
signal-integrity model 1N5406
pins: 1 A, 2 K

## AZ23C2V7
designator D?  Supplier Part Number 1: AZ23C2V7-FDICT-ND
DIODE ZENER ARRAY 2.7V SOT23-3; Manufacturer: Diodes; Manufacturer Part Number: AZ23C2V7-7-F; Fabricante: DIODES INC; Element Configuration: Common Anode; Max Power Dissipation: 300mW; Impedance: 83R; Voltage Tolerance: 5%; Test Current: 5mA; Peak Reverse Current: 100nA; Number of Contacts: 3; ESD Protection: No; Footprint: SOT23-3; MPN: AZ23C2V7; Value: AZ23C2V7; ComponentLink1Description: LOJA; ComponentLink1URL: https://www.digikey.com/product-detail/en/diodes-incorporated/AZ23C2V7-7-F/AZ23C2V7-FDICT-ND/815299; ComponentLink2Description: DATASHEET; ComponentLink2URL: https://www.diodes.com/assets/Datasheets/ds18003.pdf; Supplier 1: Digi-Key; RoHS: Yes; Category: Zener Diodes; Stock 1: 5503; Pricing 1: 1=0,39000, 10=0,29100, 25=0,25440, 100=0,13820, 250=0,13744, 500=0,11272, 1000=0,08363 (USD); Mount: Surface Mount; Case/Package: SOT-23-3; Number of Pins: 3; Weight: 0.000282oz; Contact Plating: Tin,Matte; Min Operating Temperature: -65°C; Max Operating Temperature: 150°C; Zener Voltage: 2.7V; Package Quantity: 3000; Power Dissipation: 300mW; Tolerance: 5%; Working Voltage: 2.7V; Packaging: Tape and Reel; Power Rating: 300mW; Voltage Rating (DC): 2.7V; Zener Current: 100nA; Length: 2.9mm; Height: 1mm; Width: 2.4mm; Radiation Hardening: No; Lead Free: Lead Free; ComponentLink3URL: https://datasheet.ciiva.com/15142/getdatasheetpartid-71631-15142381.pdf?src-supplier=Verical; ComponentLink3Description: https://datasheet.ciiva.com/15142/getdatasheetpartid-71631-15142381.pdf?src-supplier=Verical; ComponentLink4URL: https://datasheet.ciiva.com/16417/ds18003-16417195.pdf?src-supplier=Future+Electronics; ComponentLink4Description: https://datasheet.ciiva.com/16417/ds18003-16417195.pdf?src-supplier=Future+Electronics; ComponentLink5URL: https://datasheet.ciiva.com/17267/ds18003-17267931.pdf?src-supplier=Avnet+Europe; ComponentLink5Description: https://datasheet.ciiva.com/17267/ds18003-17267931.pdf?src-supplier=Avnet+Europe
footprint SOT23-3 (SOT23, 3-Leads, Body 2,90x2,40mm, Pitch 0,90mm, IPC Medium Density)
pins: 1 C, 2 K2, 3 A

## BAS70-04
designator D?
Diode array 1 pair series connection Schottky 70V 100mA SOT-23-3; MPN: 1N4001; Fabricante: Fairchild; Value: 1N4001; Footprint: DO-41; Code_JEDEC: DO-204-AL
footprint SOT23-3 (SOT23, 3-Leads, Body 2,90x2,40mm, Pitch 0,90mm, IPC Medium Density)
pins: 1 A, 2 K, 3

## D-SeT-RClamp0504S
designator D?, comment Supplier Part Number 1: RCLAMP0504SCT-ND  (hidden comment: RCLAMP0504S)
ESD Suppressor Diode Arrays 15KV 6-Pin SOT-23 T/R; Manufacturer Part Number: RCLAMP0504S.TCT; Fabricante: Semtech; Direction: Unidirectional,Bidirectional; Capacitance: 3pF; Clamping Voltage: 25V; Working Voltage: 5V; Number of Elements: 1; Reverse Breakdown Voltage: 6V; Number of Bidirectional Channels: 4; Peak Pulse Power: 150W; Power Line Protection: Yes; Polarity: Unidirectional; Leakage Current: 3uA; Peak Pulse Current: 6A; Test Current: 1mA; Footprint: SOT-23-6; Value: RCLAMP0504S; ComponentLink1Description: loja; ComponentLink1URL: https://www.digikey.com/product-detail/en/semtech-corporation/RCLAMP0504S.TCT/RCLAMP0504SCT-ND/1000961; ComponentLink2Description: datasheet; ComponentLink2URL: https://www.semtech.com/uploads/documents/rclamp0504s.pdf; Supplier 1: Digi-Key; Manufacturer: Semtech; RoHS: Yes; Category: TVS Diodes; Stock 1: 34780; Pricing 1: 1=0,86000, 10=0,76700, 25=0,72800, 100=0,54600, 250=0,54080, 500=0,46280, 1000=0,37700 (USD); Mount: Surface Mount; Case/Package: SOT-23; Number of Pins: 6; Min Operating Temperature: -55°C; Max Operating Temperature: 125°C; Packaging: Tape and Reel; Reverse Standoff Voltage: 5V; Min Breakdown Voltage: 6V; Power Dissipation: 150W; Voltage Rating (DC): 5V; Operating Supply Voltage: 5V; Length: 2.9mm; Depth: 1.6mm; Width: 1.6mm; Radiation Hardening: No; Lead Free: Lead Free; ComponentLink3URL: https://datasheet.ciiva.com/16581/rclamp0504s-16581697.pdf?src-supplier=Avnet+Europe; ComponentLink3Description: https://datasheet.ciiva.com/16581/rclamp0504s-16581697.pdf?src-supplier=Avnet+Europe; ComponentLink4URL: https://datasheet.ciiva.com/26787/rclamp0504s-tct-26787860.pdf?src-supplier=IIIC; ComponentLink4Description: https://datasheet.ciiva.com/26787/rclamp0504s-tct-26787860.pdf?src-supplier=IIIC; ComponentLink5URL: https://datasheet.ciiva.com/338/rclamp0504s-338706.pdf?src-supplier=Digi-Key; ComponentLink5Description: https://datasheet.ciiva.com/338/rclamp0504s-338706.pdf?src-supplier=Digi-Key; ComponentLink6URL: https://datasheet.ciiva.com/338/rclamp0504s-338707.pdf?src-supplier=Digi-Key; ComponentLink6Description: https://datasheet.ciiva.com/338/rclamp0504s-338707.pdf?src-supplier=Digi-Key; ComponentLink7URL: https://datasheet.ciiva.com/338/rclamp0504s-338708.pdf?src-supplier=Digi-Key; ComponentLink7Description: https://datasheet.ciiva.com/338/rclamp0504s-338708.pdf?src-supplier=Digi-Key; ComponentLink8URL: https://datasheet.ciiva.com/18065/getdatasheetpartid-149035-18065766.pdf?src-supplier=Verical; ComponentLink8Description: https://datasheet.ciiva.com/18065/getdatasheetpartid-149035-18065766.pdf?src-supplier=Verical; ComponentLink9URL: https://datasheet.ciiva.com/16500/rclamp0504s-16500571.pdf?src-supplier=Future+Electronics; ComponentLink9Description: https://datasheet.ciiva.com/16500/rclamp0504s-16500571.pdf?src-supplier=Future+Electronics; MPN: RCLAMP0504S
footprint SOT23-6 (SOT23, 6-Leads, Body 2,95x2,80mm, Pitch 0,95mm, IPC Medium Density)
pins: 1 (power), 2 (power), 3 (power), 4 (power), 5 (power), 6 (power)

## D-TI-TPD2EUSB30DRTR
designator D?, comment TPD2EUSB30DRTR  Supplier Part Number 1: 296-25509-1-ND
TEXAS INSTRUMENTS - TPD2EUSB30DRTR - ESD Protection Device, 8 V, SOT, 3 Pins, TPD2E Series; Direction: Unidirectional,Bidirectional; Capacitance: 0.8pF; Number of Bidirectional Channels: 2; Reverse Standoff Voltage: 5.5V; Min Breakdown Voltage: 9V; Clamping Voltage: 8V; Peak Pulse Power: 45W; Power Line Protection: Yes; Test Current: 1mA; Element Configuration: Dual; Peak Pulse Current: 1A; Interface: USB; ComponentLink1Description: loja; ComponentLink1URL: https://www.digikey.com/product-detail/en/texas-instruments/TPD2EUSB30DRTR/296-25509-1-ND/2193502; ComponentLink2Description: datasheet; ComponentLink2URL: http://www.ti.com/lit/ds/symlink/tpd2eusb30.pdf; MPN: TPD2EUSB30DRTR; Fabricante: Texas Instruments; Footprint: SOT3; Value: TPD2EUSB30DRTR; Supplier 1: Digi-Key; Manufacturer: Texas Instruments; Manufacturer Part Number: TPD2EUSB30DRTR; RoHS: Yes; Category: Interface ICs; Stock 1: 94983; Pricing 1: 1=0,56000, 10=0,48000, 25=0,44800, 100=0,33280, 250=0,31616, 500=0,25984, 1000=0,21120 (USD); Case/Package: SOT; Number of Pins: 3; Min Operating Temperature: -40°C; Max Operating Temperature: 85°C; Packaging: Tape and Reel; Package Quantity: 1; Breakdown Voltage: 9V; Number of Channels: 2; Working Voltage: 5.5V; ESD Protection: Yes; Length: 1mm; Height: 0.45mm; Depth: 0.8mm; Width: 0.85mm; Radiation Hardening: No; REACH SVHC: No SVHC; Lead Free: Lead Free; ComponentLink3URL: https://datasheet.ciiva.com/1611/tpd2eusb30-1611602.pdf?src-supplier=Newark; ComponentLink3Description: https://datasheet.ciiva.com/1611/tpd2eusb30-1611602.pdf?src-supplier=Newark; ComponentLink4URL: https://datasheet.ciiva.com/15134/getdatasheetpartid-202713-15134479.pdf?src-supplier=Verical; ComponentLink4Description: https://datasheet.ciiva.com/15134/getdatasheetpartid-202713-15134479.pdf?src-supplier=Verical; ComponentLink5URL: https://datasheet.ciiva.com/26787/tpd2eusb30drtr-26787652.pdf?src-supplier=IIIC; ComponentLink5Description: https://datasheet.ciiva.com/26787/tpd2eusb30drtr-26787652.pdf?src-supplier=IIIC; ComponentLink6URL: https://datasheet.ciiva.com/353/tpd2eusb30-353272.pdf?src-supplier=Digi-Key; ComponentLink6Description: https://datasheet.ciiva.com/353/tpd2eusb30-353272.pdf?src-supplier=Digi-Key; ComponentLink7URL: https://datasheet.ciiva.com/1504/1882087-1504248.pdf?src-supplier=Element14; ComponentLink7Description: https://datasheet.ciiva.com/1504/1882087-1504248.pdf?src-supplier=Element14; ComponentLink8URL: https://datasheet.ciiva.com/353/tpd2eusb30-353273.pdf?src-supplier=Digi-Key; ComponentLink8Description: https://datasheet.ciiva.com/353/tpd2eusb30-353273.pdf?src-supplier=Digi-Key; ComponentLink9URL: https://datasheet.ciiva.com/25956/tpd4eusb30-25956841.pdf?src-supplier=Avnet+Europe; ComponentLink9Description: https://datasheet.ciiva.com/25956/tpd4eusb30-25956841.pdf?src-supplier=Avnet+Europe; ComponentLink10URL: https://datasheet.ciiva.com/353/tpd2eusb30-353274.pdf?src-supplier=Digi-Key; ComponentLink10Description: https://datasheet.ciiva.com/353/tpd2eusb30-353274.pdf?src-supplier=Digi-Key
footprint SOT-3 (SOT-3, 3-Leads, Body 1,00x1,00mm, Pitch 0,35mm, IPC Medium Density)
pins: 1 D+, 2 D-, 3 GND

## D_MAX40200AUK+T
designator D?, comment MAX40200AUK+T  Supplier Part Number 1: MAX40200AUK+TCT-ND
IC DIODE CURRENT SWITCH SOT23-5; Fabricante: MAXIM; Turn-On Delay Time: 65us; Turn-Off Delay Time: 1.6ms; Max Output Current: 1.2A; Operating Supply Current: 7uA; ComponentLink1Description: loja; ComponentLink1URL: https://www.digikey.com/product-detail/en/maxim-integrated/MAX40200AUK-T/MAX40200AUK-TCT-ND/7599791; ComponentLink2Description: datasheet; ComponentLink2URL: https://datasheets.maximintegrated.com/en/ds/MAX40200.pdf; MPN: MAX40200AUK+T; Footprint: SOT 23-5; Value: MAX40200AUK+T; Supplier 1: Digi-Key; Manufacturer: Maxim; Manufacturer Part Number: MAX40200AUK+T; RoHS: No; Category: Amplifiers - Op Amps, Buffer, Instrumentation; Stock 1: 10522; Pricing 1: 1=0,90000, 10=0,79200, 25=0,74400, 100=0,54000, 250=0,52080, 500=0,45120, 1000=0,38400 (USD); Mount: Surface Mount; Case/Package: SOT-23-5; Min Operating Temperature: -40°C; Max Operating Temperature: 125°C; Packaging: Tape and Reel; ComponentLink3URL: https://datasheets.maximintegrated.com/en/ds/MAX40200.pdf?src-supplier=Digi-Key; ComponentLink3Description: https://datasheets.maximintegrated.com/en/ds/MAX40200.pdf?src-supplier=Digi-Key
footprint SOT23-5 (SOT23, 5-Leads, Body 2,90x2,80mm, Pitch 0,95mm, IPC Medium Density)
pins: 1 VDD (power), 2 GND, 3 EN (in), 4 NC, 5 OUT